# Altium schematic symbol library L5973D.Schlib: 1 symbol
Pins are listed as number, name and electrical type; pins without a type are passive.

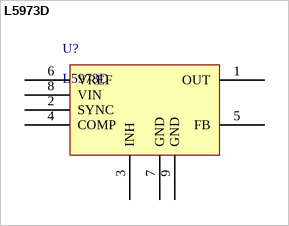
[diagram p0: symbol L5973D]

## L5973D
designator U?
IC REG BUCK ADJ 2.5A 8SOIC
pins: 1 OUT, 2 SYNC, 3 INH, 4 COMP, 5 FB, 6 VREF, 7 GND, 8 VIN, 9 GND